# Altium footprint library Copy of Main_Board.PcbLib: 44 footprints (part 1 of 3)
Each footprint in its own frame and in the unit in brackets; x right, y up, seen from the top. Pads: shape width x height; smd on the part's side, far side on the other; paste and mask are expansions set on the pad; w line width, h text height; cw(c..) or ccw(c..) is an arc to the next point about the centre after c.
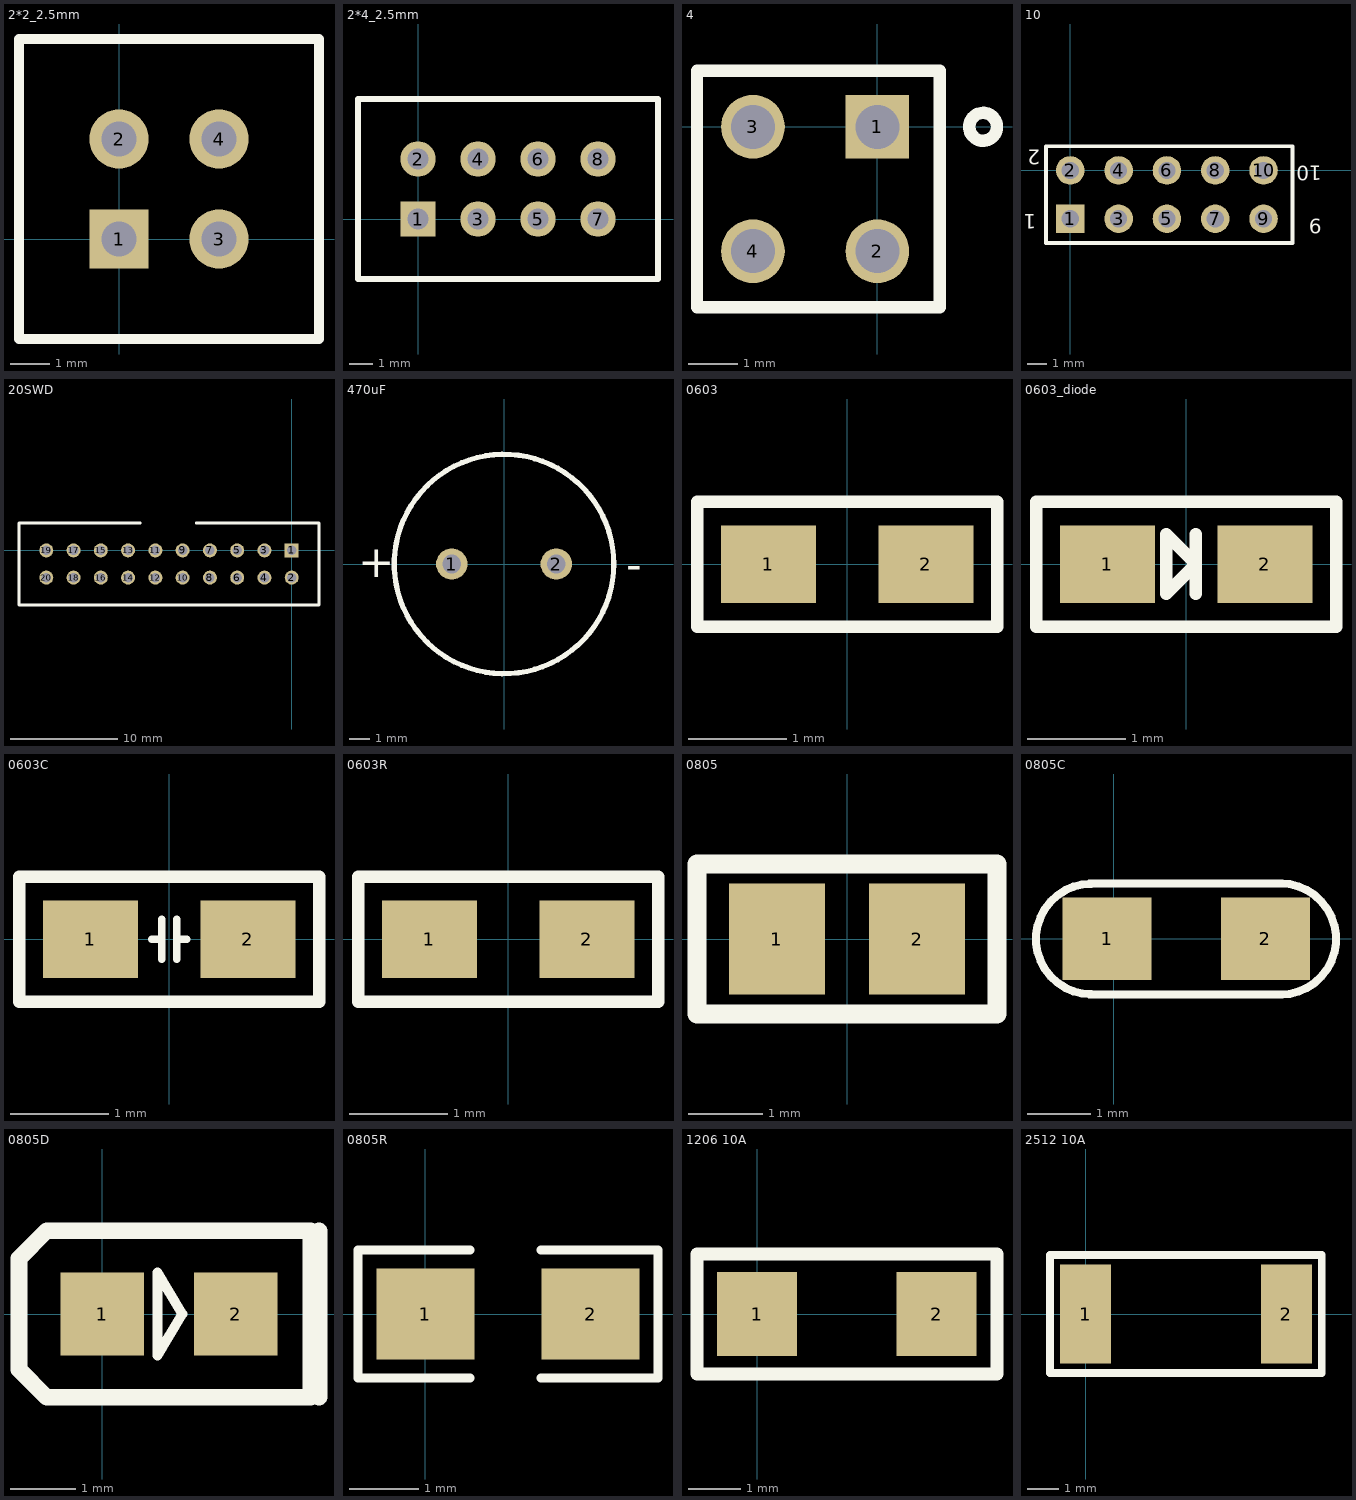
[diagram p0: the footprints below, top view; thin cyan lines are the x and y axes]

## 2*2_2.5mm [mm]
pads (4):
  rect 1.5x1.5 hole 0.9: 1(0,0)
  round 1.5 hole 0.9: 2(0,2.54) 3(2.54,0) 4(2.54,2.54)
Top Overlay:
  lines w0.254: -2.54,-2.54 -2.54,5.08 5.08,5.08 5.08,-2.54 -2.54,-2.54

## 2*4_2.5mm [mm]
pads (8):
  rect 1.5x1.5 hole 0.9: 1(0,0)
  round 1.5 hole 0.9: 2(0,2.54) 3(2.54,0) 4(2.54,2.54) 5(5.08,0) 6(5.08,2.54) 7(7.62,0) 8(7.62,2.54)
Top Overlay:
  lines w0.254: -2.54,-2.54 10.16,-2.54 10.16,5.08 -2.54,5.08 -2.54,-2.54

## 4 [mm]
pads (4):
  rect 1.3x1.3 hole 0.9: 1(0,0)
  round 1.3 hole 0.9: 2(0,-2.54) 3(-2.54,0) 4(-2.54,-2.54)
Top Overlay:
  circle w0.254: c2.159,0 r0.284
  lines w0.254: -3.683,-3.683 1.27,-3.683 1.27,1.143 -3.683,1.143 -3.683,-3.683

## 10 [mm]
pads (10):
  rect 1.5x1.5 hole 0.9: 1(0,-2.54)
  round 1.5 hole 0.9: 2(0,0) 3(2.54,-2.54) 4(2.54,0) 5(5.08,-2.54) 6(5.08,0) 7(7.62,-2.54) 8(7.62,0) 9(10.16,-2.54) 10(10.16,0)
Top Overlay:
  lines w0.2: -1.27,-3.81 11.684,-3.81 11.684,1.27 -1.27,1.27 -1.27,-3.81
  text "10" at 13.208,0.254 h0.76
  text "9" at 13.208,-2.54 h0.76
  text "1" at -1.803,-2.311 h0.76
  text "2" at -1.575,1.092 h0.76

## 20SWD [mm]
pads (20):
  rect 1.3x1.3 hole 0.9: 1(0,0)
  round 1.3 hole 0.9: 2(0,-2.54) 3(-2.54,0) 4(-2.54,-2.54) 5(-5.08,0) 6(-5.08,-2.54) 7(-7.62,0) 8(-7.62,-2.54) 9(-10.16,0) 10(-10.16,-2.54) 11(-12.7,0) 12(-12.7,-2.54) 13(-15.24,0) 14(-15.24,-2.54) 15(-17.78,0) 16(-17.78,-2.54) 17(-20.32,0) 18(-20.32,-2.54) 19(-22.86,0) 20(-22.86,-2.54)
Top Overlay:
  lines w0.254: -14.097,2.54 -25.4,2.54 -25.4,-5.08 2.54,-5.08 ; -8.89,2.54 2.54,2.54 2.54,-5.08 ; -7.62,-5.08 2.54,-5.08

## 470uF [mm] "Capacitor (Radial); 2 Leads"
pads (2):
  round 1.5 hole 0.9: 1(-2.5,0) 2(2.5,0)
Top Overlay:
  circle w0.25: c0,0 r5.25
  text "+" at -6.985,-0.635 h1.52
  text "-" at 5.842,-0.762 h1.52
Mechanical 1:
  circle w0.02: c0,0 r5.25

## 0603 [mil]
pads (2):
  rect 38x31 smd: 1(-31.5,0) 2(31.5,0)
Top Overlay:
  lines w5: -60,-25 60,-25 60,25 -60,25 -60,-25

## 0603_diode [mil]
pads (2):
  rect 38x31 smd: 1(-31.5,0) 2(31.5,0)
Top Overlay:
  lines w5: 3.94,-11.81 3.94,11.81 ; -60,-25 -60,25 60,25 60,-25 -60,-25 ; -7.87,-11.81 3.94,0 -7.87,11.81 -7.87,-11.81

## 0603C [mil]
pads (2):
  rect 38x31 smd: 1(-31.5,0) 2(31.5,0)
Top Overlay:
  lines w3: -7,0 -4,0 ; -3,-8 -3,8 ; 3,-8 3,8 ; 3,0 7,0
  lines w5: -60,-25 -60,25 60,25 60,-25 -60,-25

## 0603R [mil]
pads (2):
  rect 38x31 smd: 1(-31.5,0) 2(31.5,0)
Top Overlay:
  lines w5: -60,-25 60,-25 60,25 -60,25 -60,-25

## 0805 [mm]
pads (2):
  rect 1.3x1.5 smd: 1(-0.95,0) 2(0.95,0)
Top Overlay:
  lines w0.254: -2.032,-1.016 -2.032,1.016 2.032,1.016 2.032,-1.016 -2.032,-1.016

## 0805C [mm]
pads (2):
  rect 1.4x1.3 smd: 1(-0.102,0) 2(2.388,0)
Top Overlay:
  lines w0.127: -0.377,-0.876 2.647,-0.876 ; -0.377,0.871 2.647,0.871 ; -0.351,-0.87 cw(c-0.351,-0.003) -0.351,0.865 ; 2.622,-0.876 ccw(c2.622,-0.003) 2.622,0.871

## 0805D [mil] "二?"
pads (2):
  rect 50x50 smd: 1(0,0) 2(80,0)
Top Overlay:
  lines w5.91: 33,-25 48,0 33,25 33,-25
  lines w10: 130,-50 130,0 130,50 ; -50,-33.33 -33.33,-50 125,-50 125,50 -33.33,50 -50,33.33 -50,-33.33

## 0805R [mm]
height 0.051
pads (2):
  rect 1.4x1.3 smd: 1(0,0) 2(2.362,0)
Top Overlay:
  lines w0.127: 0.635,-0.914 -0.965,-0.914 -0.965,0.914 0.635,0.914 ; 1.651,-0.914 3.327,-0.914 3.327,0.914 1.651,0.914

## 1206 10A [mm]
pads (2):
  rect 1.52x1.6 smd: 1(0,0) 2(3.42,0)
Top Overlay:
  lines w0.254: -1.143,-1.143 4.572,-1.143 4.572,1.143 -1.143,1.143 -1.143,-1.143

## 2512 10A [mm]
pads (2):
  rect 1.65x3.2 smd: 1(0,0) 2(6.48,0)
Top Overlay:
  lines w0.254: -1.143,-1.905 -1.143,1.905 7.62,1.905 7.62,-1.905 -1.143,-1.905